# Altium integrated library TI Amplifiers and Linear Operational Amplifier Precision Amplifier Part Two.IntLib: 2300 symbols (part 4 of 81)
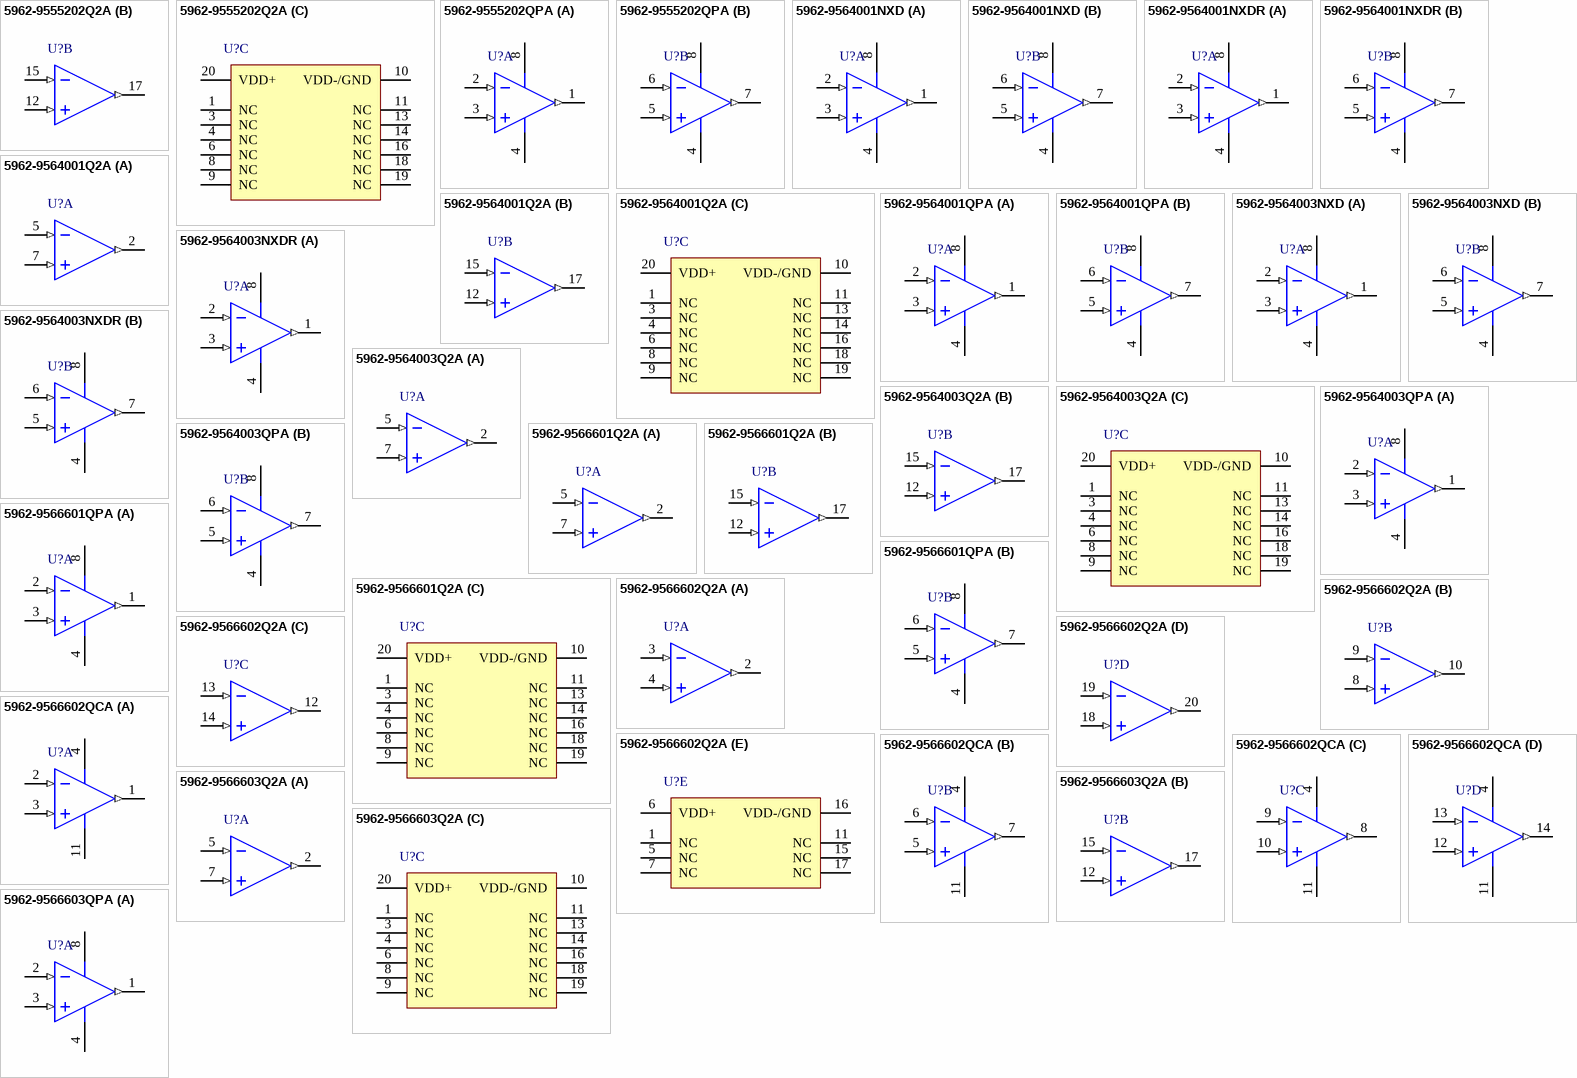
[diagram p139: symbols 5962-9555202Q2A to 5962-9566603QPA]

## 5962-9564003NXDR
designator U?
Rail-to-Rail uPower Precision Advanced LinCMOS(TM) Dual Operational Amplifier, 4.4 to 16 V, -55 to 125 degC, 8-pin SOIC (D8), Green (RoHS & no Sb/Br); Manufacturer: Texas Instruments; PartNumber: 5962-9564003NXDR; CMRR(Min)(dB): 70; GBW(Typ)(MHz): 0.2; IIB(Max)(pA): 60; Iq per channel(Max)(mA): 0.0625; Number of Channels: 2; Offset Drift(Typ)(uV/C): 0.5; Packing: LARGE T&R; Rating: Military; Slew Rate(Typ)(V/us): 0.12; Sub Family: Low Power Amp (<=500uA), Precision Amplifier; Total Supply Voltage(Max)(+5V is 5, +/-5V is 10): 16; Total Supply Voltage(Min)(+5V is 5, +/-5V is 10): 4.4; Vio (25C)(Max)(mV): 0.85; DatasheetVersion: SLOS176D; PackageVersion: 4040047-3/M, 06/2011; PackageReference: D8; PackageDescription: 8-Pin Plastic Small Outline, Body 4.9 x 3.9 mm, Pitch 1.27 mm; Eco-Plan: Green (RoHS & no Sb/Br); Mounting Technology: Surface Mount; Code_JEDEC: MS-012; ComponentLink1Description: Manufacturer URL; ComponentLink1URL: http://www.ti.com/; ComponentLink2Description: Datasheet; ComponentLink2URL: http://www.ti.com/lit/ds/symlink/tlc2252am.pdf; ComponentLink3Description: Package Specification; ComponentLink3URL: http://www.ti.com/litv/pdf/msoi002j
footprint TI-D8_N (SOIC, 8-Leads, Body 4.9x3.9mm, Pitch 1.27mm, IPC Medium Density)
footprint TI-D8_L (SOIC, 8-Leads, Body 4.9x3.9mm, Pitch 1.27mm, IPC High Density)
footprint TI-D8_M (SOIC, 8-Leads, Body 4.9x3.9mm, Pitch 1.27mm, IPC Low Density)
pins on every part: 4 VDD-/GND (power), 8 VDD+ (power)
part A pins: 1 OUT1 (out), 2 IN1- (in), 3 IN1+ (in)
part B pins: 5 IN2+ (in), 6 IN2- (in), 7 OUT2 (out)

## 5962-9564003Q2A
designator U?
Rail-to-Rail uPower Precision Advanced LinCMOS(TM) Dual Operational Amplifier, 4.4 to 16 V, -55 to 125 degC, 20-pin LCC (FK20); Manufacturer: Texas Instruments; PartNumber: 5962-9564003Q2A; CMRR(Min)(dB): 70; GBW(Typ)(MHz): 0.2; IIB(Max)(pA): 60; Iq per channel(Max)(mA): 0.0625; Number of Channels: 2; Offset Drift(Typ)(uV/C): 0.5; Packing: TUBE; Rating: Military; Slew Rate(Typ)(V/us): 0.12; Sub Family: Low Power Amp (<=500uA), Precision Amplifier; Total Supply Voltage(Max)(+5V is 5, +/-5V is 10): 16; Total Supply Voltage(Min)(+5V is 5, +/-5V is 10): 4.4; Vio (25C)(Max)(mV): 0.85; DatasheetVersion: SLOS176D; PackageVersion: 4040140/D, 01/2011; PackageReference: FK20; PackageDescription: 20-Pin Ceramic, Metal Chip Carrier, Body 8.89 x 8.89 mm, Pitch 1.27 mm; Mounting Technology: Surface Mount; Code_JEDEC: MS-004; ComponentLink1Description: Manufacturer URL; ComponentLink1URL: http://www.ti.com/; ComponentLink2Description: Datasheet; ComponentLink2URL: http://www.ti.com/lit/ds/symlink/tlc2252am.pdf; ComponentLink3Description: Package Specification; ComponentLink3URL: http://www.ti.com/litv/pdf/mlcc006d
footprint TI-FK20_N (Leadless Chip Carrier, 20-Leads, Body 8.9x8.9mm, Pitch 1.27mm, IPC Medium Density)
footprint TI-FK20_L (Leadless Chip Carrier, 20-Leads, Body 8.9x8.9mm, Pitch 1.27mm, IPC High Density)
footprint TI-FK20_M (Leadless Chip Carrier, 20-Leads, Body 8.9x8.9mm, Pitch 1.27mm, IPC Low Density)
part A pins: 2 OUT1 (out), 5 IN1- (in), 7 IN1+ (in)
part B pins: 12 IN2+ (in), 15 IN2- (in), 17 OUT2 (out)
part C pins: 1 NC, 3 NC, 4 NC, 6 NC, 8 NC, 9 NC, 10 VDD-/GND (power), 11 NC, 13 NC, 14 NC, 16 NC, 18 NC, 19 NC, 20 VDD+ (power)

## 5962-9564003QPA
designator U?
Rail-to-Rail uPower Precision Advanced LinCMOS(TM) Dual Operational Amplifier, 4.4 to 16 V, -55 to 125 degC, 8-pin DIP (JG8); Manufacturer: Texas Instruments; PartNumber: 5962-9564003QPA; CMRR(Min)(dB): 70; GBW(Typ)(MHz): 0.2; IIB(Max)(pA): 60; Iq per channel(Max)(mA): 0.0625; Number of Channels: 2; Offset Drift(Typ)(uV/C): 0.5; Packing: TUBE; Rating: Military; Slew Rate(Typ)(V/us): 0.12; Sub Family: Low Power Amp (<=500uA), Precision Amplifier; Total Supply Voltage(Max)(+5V is 5, +/-5V is 10): 16; Total Supply Voltage(Min)(+5V is 5, +/-5V is 10): 4.4; Vio (25C)(Max)(mV): 0.85; DatasheetVersion: SLOS176D; PackageVersion: 4040107/C, 08/1996; PackageReference: JG8; PackageDescription: 8-Pin Ceramic, Glass In-Line, Body 9.58 x 6.665 mm, Pitch 2.54 mm; Mounting Technology: Through Hole; ComponentLink1Description: Manufacturer URL; ComponentLink1URL: http://www.ti.com/; ComponentLink2Description: Datasheet; ComponentLink2URL: http://www.ti.com/lit/ds/symlink/tlc2252am.pdf; ComponentLink3Description: Package Specification; ComponentLink3URL: http://www.ti.com/litv/pdf/mcer001a
footprint TI-JG8 (DIP, 8-Leads, Body 10.15x7.1mm, Pitch 2.54mm)
pins on every part: 4 VDD-/GND (power), 8 VDD+ (power)
part A pins: 1 OUT1 (out), 2 IN1- (in), 3 IN1+ (in)
part B pins: 5 IN2+ (in), 6 IN2- (in), 7 OUT2 (out)

## 5962-9566601Q2A
designator U?
Low Voltage Rail-to-Rail Micropower Advanced LinCMOS(TM) Dual Operational Amplifier, 2.7 to 8 V, -55 to 125 degC, 20-pin LCC (FK20); Manufacturer: Texas Instruments; PartNumber: 5962-9566601Q2A; CMRR(Min)(dB): 65; GBW(Typ)(MHz): 0.187; IIB(Max)(pA): 60; Iq per channel(Max)(mA): 0.125; Number of Channels: 2; Offset Drift(Typ)(uV/C): 0.5; Packing: TUBE; Rating: Military; Slew Rate(Typ)(V/us): 0.1; Sub Family: Low Power Amp (<=500uA), Low Supply Voltage Amplifier (<=2.7V), Precision Amplifier; Total Supply Voltage(Max)(+5V is 5, +/-5V is 10): 8; Total Supply Voltage(Min)(+5V is 5, +/-5V is 10): 2.7; Vio (25C)(Max)(mV): 1.5; DatasheetVersion: SLOS185D; PackageVersion: 4040140/D, 01/2011; PackageReference: FK20; PackageDescription: 20-Pin Ceramic, Metal Chip Carrier, Body 8.89 x 8.89 mm, Pitch 1.27 mm; Mounting Technology: Surface Mount; Code_JEDEC: MS-004; ComponentLink1Description: Manufacturer URL; ComponentLink1URL: http://www.ti.com/; ComponentLink2Description: Datasheet; ComponentLink2URL: http://www.ti.com/lit/ds/symlink/tlv2252m.pdf; ComponentLink3Description: Package Specification; ComponentLink3URL: http://www.ti.com/litv/pdf/mlcc006d
footprint TI-FK20_N (Leadless Chip Carrier, 20-Leads, Body 8.9x8.9mm, Pitch 1.27mm, IPC Medium Density)
footprint TI-FK20_L (Leadless Chip Carrier, 20-Leads, Body 8.9x8.9mm, Pitch 1.27mm, IPC High Density)
footprint TI-FK20_M (Leadless Chip Carrier, 20-Leads, Body 8.9x8.9mm, Pitch 1.27mm, IPC Low Density)
part A pins: 2 OUT1 (out), 5 IN1- (in), 7 IN1+ (in)
part B pins: 12 IN2+ (in), 15 IN2- (in), 17 OUT2 (out)
part C pins: 1 NC, 3 NC, 4 NC, 6 NC, 8 NC, 9 NC, 10 VDD-/GND (power), 11 NC, 13 NC, 14 NC, 16 NC, 18 NC, 19 NC, 20 VDD+ (power)

## 5962-9566601QPA
designator U?
Low Voltage Rail-to-Rail Micropower Advanced LinCMOS(TM) Dual Operational Amplifier, 2.7 to 8 V, -55 to 125 degC, 8-pin DIP (JG8); Manufacturer: Texas Instruments; PartNumber: 5962-9566601QPA; CMRR(Min)(dB): 65; GBW(Typ)(MHz): 0.187; IIB(Max)(pA): 60; Iq per channel(Max)(mA): 0.125; Number of Channels: 2; Offset Drift(Typ)(uV/C): 0.5; Packing: TUBE; Rating: Military; Slew Rate(Typ)(V/us): 0.1; Sub Family: Low Power Amp (<=500uA), Low Supply Voltage Amplifier (<=2.7V), Precision Amplifier; Total Supply Voltage(Max)(+5V is 5, +/-5V is 10): 8; Total Supply Voltage(Min)(+5V is 5, +/-5V is 10): 2.7; Vio (25C)(Max)(mV): 1.5; DatasheetVersion: SLOS185D; PackageVersion: 4040107/C, 08/1996; PackageReference: JG8; PackageDescription: 8-Pin Ceramic, Glass In-Line, Body 9.58 x 6.665 mm, Pitch 2.54 mm; Mounting Technology: Through Hole; ComponentLink1Description: Manufacturer URL; ComponentLink1URL: http://www.ti.com/; ComponentLink2Description: Datasheet; ComponentLink2URL: http://www.ti.com/lit/ds/symlink/tlv2252m.pdf; ComponentLink3Description: Package Specification; ComponentLink3URL: http://www.ti.com/litv/pdf/mcer001a
footprint TI-JG8 (DIP, 8-Leads, Body 10.15x7.1mm, Pitch 2.54mm)
pins on every part: 4 VDD-/GND (power), 8 VDD+ (power)
part A pins: 1 OUT1 (out), 2 IN1- (in), 3 IN1+ (in)
part B pins: 5 IN2+ (in), 6 IN2- (in), 7 OUT2 (out)

## 5962-9566602Q2A
designator U?
Low Voltage Rail-to-Rail uPower Advanced LinCMOS(TM) Quad Operational Amplifier, 2.7 to 8 V, -55 to 125 degC, 20-pin LCC (FK20); Manufacturer: Texas Instruments; PartNumber: 5962-9566602Q2A; CMRR(Min)(dB): 70; GBW(Typ)(MHz): 0.2; IIB(Max)(pA): 60; Iq per channel(Max)(mA): 0.0625; Number of Channels: 4; Offset Drift(Typ)(uV/C): 0.5; Packing: TUBE; Rating: Military; Slew Rate(Typ)(V/us): 0.12; Sub Family: Low Power Amp (<=500uA), Low Supply Voltage Amplifier (<=2.7V), Precision Amplifier; Total Supply Voltage(Max)(+5V is 5, +/-5V is 10): 8; Total Supply Voltage(Min)(+5V is 5, +/-5V is 10): 2.7; Vio (25C)(Max)(mV): 1.5; DatasheetVersion: SLOS185D; PackageVersion: 4040140/D, 01/2011; PackageReference: FK20; PackageDescription: 20-Pin Ceramic, Metal Chip Carrier, Body 8.89 x 8.89 mm, Pitch 1.27 mm; Mounting Technology: Surface Mount; Code_JEDEC: MS-004; ComponentLink1Description: Manufacturer URL; ComponentLink1URL: http://www.ti.com/; ComponentLink2Description: Datasheet; ComponentLink2URL: http://www.ti.com/lit/ds/symlink/tlv2254m.pdf; ComponentLink3Description: Package Specification; ComponentLink3URL: http://www.ti.com/litv/pdf/mlcc006d
footprint TI-FK20_N (Leadless Chip Carrier, 20-Leads, Body 8.9x8.9mm, Pitch 1.27mm, IPC Medium Density)
footprint TI-FK20_L (Leadless Chip Carrier, 20-Leads, Body 8.9x8.9mm, Pitch 1.27mm, IPC High Density)
footprint TI-FK20_M (Leadless Chip Carrier, 20-Leads, Body 8.9x8.9mm, Pitch 1.27mm, IPC Low Density)
part A pins: 2 OUT1 (out), 3 IN1- (in), 4 IN1+ (in)
part B pins: 8 IN2+ (in), 9 IN2- (in), 10 OUT2 (out)
part C pins: 12 OUT3 (out), 13 IN3- (in), 14 IN3+ (in)
part D pins: 18 IN4+ (in), 19 IN4- (in), 20 OUT4 (out)
part E pins: 1 NC, 5 NC, 6 VDD+ (power), 7 NC, 11 NC, 15 NC, 16 VDD-/GND (power), 17 NC

## 5962-9566602QCA
designator U?
Low Voltage Rail-to-Rail uPower Advanced LinCMOS(TM) Quad Operational Amplifier, 2.7 to 8 V, -55 to 125 degC, 14-pin DIP (J14); Manufacturer: Texas Instruments; PartNumber: 5962-9566602QCA; CMRR(Min)(dB): 70; GBW(Typ)(MHz): 0.2; IIB(Max)(pA): 60; Iq per channel(Max)(mA): 0.0625; Number of Channels: 4; Offset Drift(Typ)(uV/C): 0.5; Packing: TUBE; Rating: Military; Slew Rate(Typ)(V/us): 0.12; Sub Family: Low Power Amp (<=500uA), Low Supply Voltage Amplifier (<=2.7V), Precision Amplifier; Total Supply Voltage(Max)(+5V is 5, +/-5V is 10): 8; Total Supply Voltage(Min)(+5V is 5, +/-5V is 10): 2.7; Vio (25C)(Max)(mV): 1.5; DatasheetVersion: SLOS185D; PackageVersion: 4040083/F, 03/2003; PackageReference: J14; PackageDescription: 14-Pin Ceramic, Glass In-Line, Row Spacing 7.62 mm, Pitch 2.54 mm; Mounting Technology: Through Hole; ComponentLink1Description: Manufacturer URL; ComponentLink1URL: http://www.ti.com/; ComponentLink2Description: Datasheet; ComponentLink2URL: http://www.ti.com/lit/ds/symlink/tlv2254m.pdf; ComponentLink3Description: Package Specification; ComponentLink3URL: http://www.ti.com/litv/pdf/mcer002d
footprint TI-J14 (DIP, 14-Leads, Body 19.94x6.92mm, Row Spacing 7.62 mm, Pitch 2.54mm)
pins on every part: 4 VDD+ (power), 11 VDD-/GND (power)
part A pins: 1 OUT1 (out), 2 IN1- (in), 3 IN1+ (in)
part B pins: 5 IN2+ (in), 6 IN2- (in), 7 OUT2 (out)
part C pins: 8 OUT3 (out), 9 IN3- (in), 10 IN3+ (in)
part D pins: 12 IN4+ (in), 13 IN4- (in), 14 OUT4 (out)

## 5962-9566603Q2A
designator U?
Low Voltage Rail-to-Rail uPower Precision Advanced LinCMOS(TM) Dual Operational Amplifier, 2.7 to 8 V, -55 to 125 degC, 20-pin LCC (FK20); Manufacturer: Texas Instruments; PartNumber: 5962-9566603Q2A; CMRR(Min)(dB): 65; GBW(Typ)(MHz): 0.187; IIB(Max)(pA): 60; Iq per channel(Max)(mA): 0.125; Number of Channels: 2; Offset Drift(Typ)(uV/C): 0.5; Packing: TUBE; Rating: Military; Slew Rate(Typ)(V/us): 0.1; Sub Family: Low Power Amp (<=500uA), Low Supply Voltage Amplifier (<=2.7V), Precision Amplifier; Total Supply Voltage(Max)(+5V is 5, +/-5V is 10): 8; Total Supply Voltage(Min)(+5V is 5, +/-5V is 10): 2.7; Vio (25C)(Max)(mV): 0.85; DatasheetVersion: SLOS185D; PackageVersion: 4040140/D, 01/2011; PackageReference: FK20; PackageDescription: 20-Pin Ceramic, Metal Chip Carrier, Body 8.89 x 8.89 mm, Pitch 1.27 mm; Mounting Technology: Surface Mount; Code_JEDEC: MS-004; ComponentLink1Description: Manufacturer URL; ComponentLink1URL: http://www.ti.com/; ComponentLink2Description: Datasheet; ComponentLink2URL: http://www.ti.com/lit/ds/symlink/tlv2252am.pdf; ComponentLink3Description: Package Specification; ComponentLink3URL: http://www.ti.com/litv/pdf/mlcc006d
footprint TI-FK20_N (Leadless Chip Carrier, 20-Leads, Body 8.9x8.9mm, Pitch 1.27mm, IPC Medium Density)
footprint TI-FK20_L (Leadless Chip Carrier, 20-Leads, Body 8.9x8.9mm, Pitch 1.27mm, IPC High Density)
footprint TI-FK20_M (Leadless Chip Carrier, 20-Leads, Body 8.9x8.9mm, Pitch 1.27mm, IPC Low Density)
part A pins: 2 OUT1 (out), 5 IN1- (in), 7 IN1+ (in)
part B pins: 12 IN2+ (in), 15 IN2- (in), 17 OUT2 (out)
part C pins: 1 NC, 3 NC, 4 NC, 6 NC, 8 NC, 9 NC, 10 VDD-/GND (power), 11 NC, 13 NC, 14 NC, 16 NC, 18 NC, 19 NC, 20 VDD+ (power)

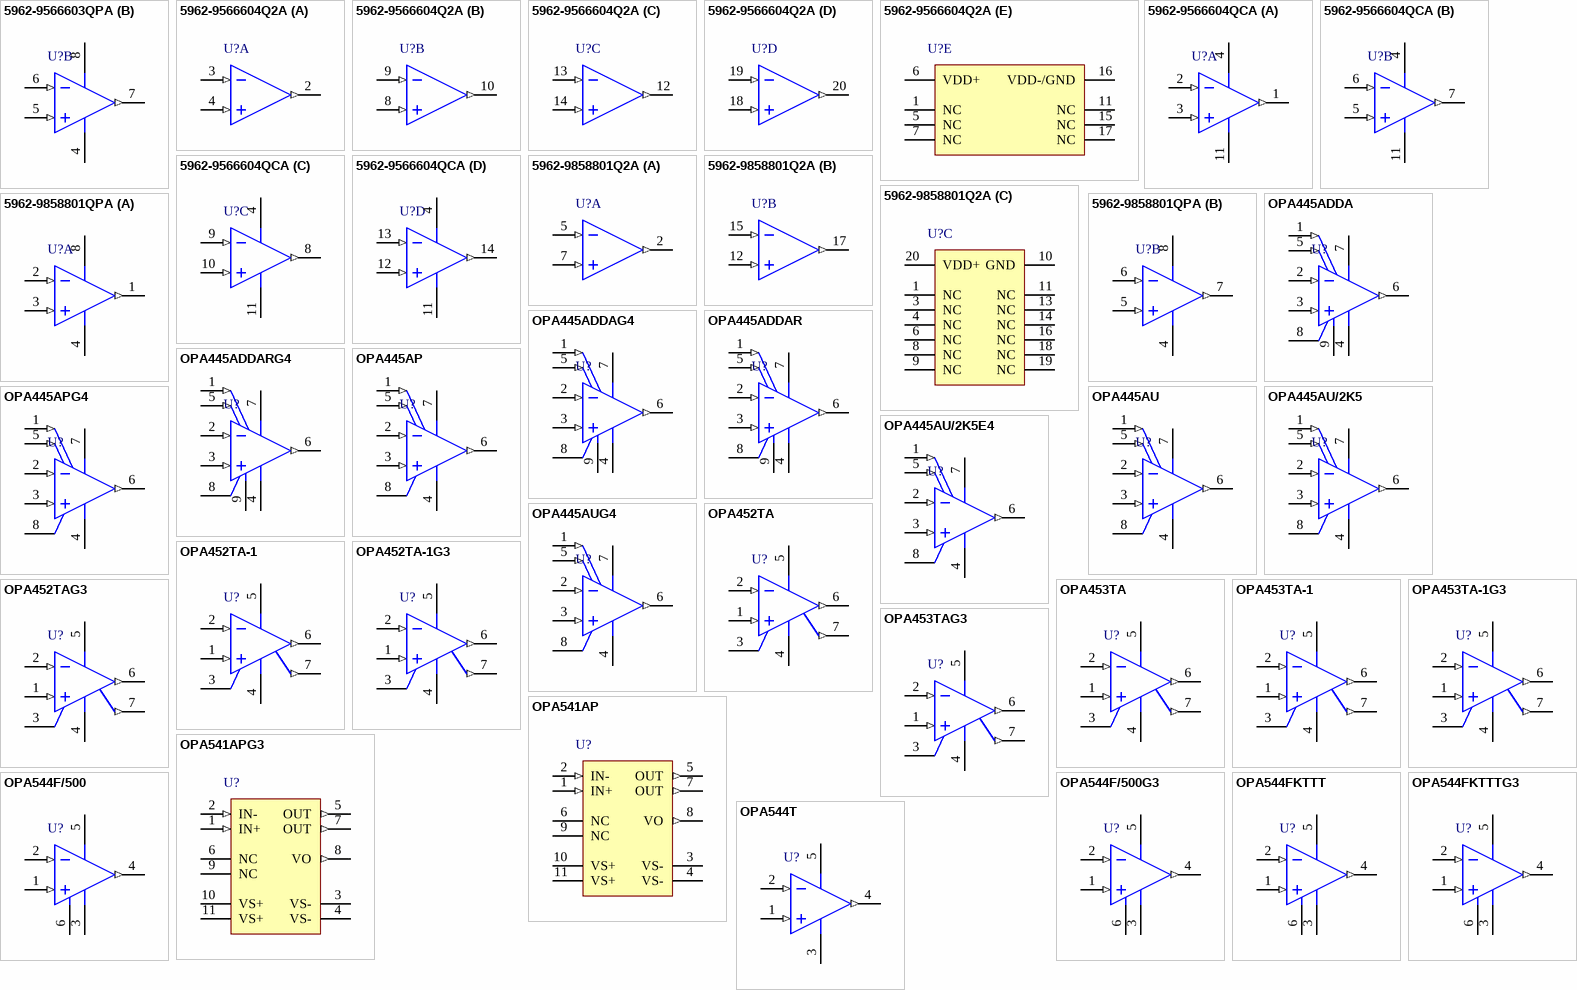
[diagram p7: symbols 5962-9566603QPA to OPA544T]

## 5962-9566603QPA
designator U?
Low Voltage Rail-to-Rail uPower Precision Advanced LinCMOS(TM) Dual Operational Amplifier, 2.7 to 8 V, -55 to 125 degC, 8-pin DIP (JG8); Manufacturer: Texas Instruments; PartNumber: 5962-9566603QPA; CMRR(Min)(dB): 65; GBW(Typ)(MHz): 0.187; IIB(Max)(pA): 60; Iq per channel(Max)(mA): 0.125; Number of Channels: 2; Offset Drift(Typ)(uV/C): 0.5; Packing: TUBE; Rating: Military; Slew Rate(Typ)(V/us): 0.1; Sub Family: Low Power Amp (<=500uA), Low Supply Voltage Amplifier (<=2.7V), Precision Amplifier; Total Supply Voltage(Max)(+5V is 5, +/-5V is 10): 8; Total Supply Voltage(Min)(+5V is 5, +/-5V is 10): 2.7; Vio (25C)(Max)(mV): 0.85; DatasheetVersion: SLOS185D; PackageVersion: 4040107/C, 08/1996; PackageReference: JG8; PackageDescription: 8-Pin Ceramic, Glass In-Line, Body 9.58 x 6.665 mm, Pitch 2.54 mm; Mounting Technology: Through Hole; ComponentLink1Description: Manufacturer URL; ComponentLink1URL: http://www.ti.com/; ComponentLink2Description: Datasheet; ComponentLink2URL: http://www.ti.com/lit/ds/symlink/tlv2252am.pdf; ComponentLink3Description: Package Specification; ComponentLink3URL: http://www.ti.com/litv/pdf/mcer001a
footprint TI-JG8 (DIP, 8-Leads, Body 10.15x7.1mm, Pitch 2.54mm)
pins on every part: 4 VDD-/GND (power), 8 VDD+ (power)
part A pins: 1 OUT1 (out), 2 IN1- (in), 3 IN1+ (in)
part B pins: 5 IN2+ (in), 6 IN2- (in), 7 OUT2 (out)

## 5962-9566604Q2A
designator U?
Low Voltage Rail-to-Rail uPower Precision Advanced LinCMOS(TM) Quad Operational Amplifier, 2.7 to 8 V, -55 to 125 degC, 20-pin LCC (FK20); Manufacturer: Texas Instruments; PartNumber: 5962-9566604Q2A; CMRR(Min)(dB): 70; GBW(Typ)(MHz): 0.2; IIB(Max)(pA): 60; Iq per channel(Max)(mA): 0.0625; Number of Channels: 4; Offset Drift(Typ)(uV/C): 0.5; Packing: TUBE; Rating: Military; Slew Rate(Typ)(V/us): 0.12; Sub Family: Low Power Amp (<=500uA), Low Supply Voltage Amplifier (<=2.7V), Precision Amplifier; Total Supply Voltage(Max)(+5V is 5, +/-5V is 10): 8; Total Supply Voltage(Min)(+5V is 5, +/-5V is 10): 2.7; Vio (25C)(Max)(mV): 0.85; DatasheetVersion: SLOS185D; PackageVersion: 4040140/D, 01/2011; PackageReference: FK20; PackageDescription: 20-Pin Ceramic, Metal Chip Carrier, Body 8.89 x 8.89 mm, Pitch 1.27 mm; Mounting Technology: Surface Mount; Code_JEDEC: MS-004; ComponentLink1Description: Manufacturer URL; ComponentLink1URL: http://www.ti.com/; ComponentLink2Description: Datasheet; ComponentLink2URL: http://www.ti.com/lit/ds/symlink/tlv2254am.pdf; ComponentLink3Description: Package Specification; ComponentLink3URL: http://www.ti.com/litv/pdf/mlcc006d
footprint TI-FK20_N (Leadless Chip Carrier, 20-Leads, Body 8.9x8.9mm, Pitch 1.27mm, IPC Medium Density)
footprint TI-FK20_L (Leadless Chip Carrier, 20-Leads, Body 8.9x8.9mm, Pitch 1.27mm, IPC High Density)
footprint TI-FK20_M (Leadless Chip Carrier, 20-Leads, Body 8.9x8.9mm, Pitch 1.27mm, IPC Low Density)
part A pins: 2 OUT1 (out), 3 IN1- (in), 4 IN1+ (in)
part B pins: 8 IN2+ (in), 9 IN2- (in), 10 OUT2 (out)
part C pins: 12 OUT3 (out), 13 IN3- (in), 14 IN3+ (in)
part D pins: 18 IN4+ (in), 19 IN4- (in), 20 OUT4 (out)
part E pins: 1 NC, 5 NC, 6 VDD+ (power), 7 NC, 11 NC, 15 NC, 16 VDD-/GND (power), 17 NC

## 5962-9566604QCA
designator U?
Low Voltage Rail-to-Rail uPower Precision Advanced LinCMOS(TM) Quad Operational Amplifier, 2.7 to 8 V, -55 to 125 degC, 14-pin DIP (J14); Manufacturer: Texas Instruments; PartNumber: 5962-9566604QCA; CMRR(Min)(dB): 70; GBW(Typ)(MHz): 0.2; IIB(Max)(pA): 60; Iq per channel(Max)(mA): 0.0625; Number of Channels: 4; Offset Drift(Typ)(uV/C): 0.5; Packing: TUBE; Rating: Military; Slew Rate(Typ)(V/us): 0.12; Sub Family: Low Power Amp (<=500uA), Low Supply Voltage Amplifier (<=2.7V), Precision Amplifier; Total Supply Voltage(Max)(+5V is 5, +/-5V is 10): 8; Total Supply Voltage(Min)(+5V is 5, +/-5V is 10): 2.7; Vio (25C)(Max)(mV): 0.85; DatasheetVersion: SLOS185D; PackageVersion: 4040083/F, 03/2003; PackageReference: J14; PackageDescription: 14-Pin Ceramic, Glass In-Line, Row Spacing 7.62 mm, Pitch 2.54 mm; Mounting Technology: Through Hole; ComponentLink1Description: Manufacturer URL; ComponentLink1URL: http://www.ti.com/; ComponentLink2Description: Datasheet; ComponentLink2URL: http://www.ti.com/lit/ds/symlink/tlv2254am.pdf; ComponentLink3Description: Package Specification; ComponentLink3URL: http://www.ti.com/litv/pdf/mcer002d
footprint TI-J14 (DIP, 14-Leads, Body 19.94x6.92mm, Row Spacing 7.62 mm, Pitch 2.54mm)
pins on every part: 4 VDD+ (power), 11 VDD-/GND (power)
part A pins: 1 OUT1 (out), 2 IN1- (in), 3 IN1+ (in)
part B pins: 5 IN2+ (in), 6 IN2- (in), 7 OUT2 (out)
part C pins: 8 OUT3 (out), 9 IN3- (in), 10 IN3+ (in)
part D pins: 12 IN4+ (in), 13 IN4- (in), 14 OUT4 (out)

## 5962-9858801Q2A
designator U?
Dual High-Slew-Rate Rail-to-Rai Output Operational Amplifier, 2.5 to 6 V, -55 to 125 degC, 20-pin LCC (FK20); Manufacturer: Texas Instruments; PartNumber: 5962-9858801Q2A; CMRR(Min)(dB): 60; GBW(Typ)(MHz): 5.1; Iq per channel(Max)(mA): 2; Packing: TUBE; Rating: Military; Slew Rate(Typ)(V/us): 9; Sub Family: Low Supply Voltage Amplifier (<=2.7V), Precision Amplifier; Total Supply Voltage(Max)(+5V is 5, +/-5V is 10): 6; Total Supply Voltage(Min)(+5V is 5, +/-5V is 10): 2.5; DatasheetVersion: SLOS209G; PackageVersion: 4040140/D, 01/2011; PackageReference: FK20; PackageDescription: 20-Pin Ceramic, Metal Chip Carrier, Body 8.89 x 8.89 mm, Pitch 1.27 mm; IIB(Max)(pA): 60; Number of Channels: 2; Offset Drift(Typ)(uV/C): 2; Vio (25C)(Max)(mV): 2.5; Mounting Technology: Surface Mount; Code_JEDEC: MS-004; ComponentLink1Description: Manufacturer URL; ComponentLink1URL: http://www.ti.com/; ComponentLink2Description: Datasheet; ComponentLink2URL: http://www.ti.com/lit/ds/symlink/tlv2772m.pdf; ComponentLink3Description: Package Specification; ComponentLink3URL: http://www.ti.com/litv/pdf/mlcc006d
footprint TI-FK20_N (Leadless Chip Carrier, 20-Leads, Body 8.9x8.9mm, Pitch 1.27mm, IPC Medium Density)
footprint TI-FK20_L (Leadless Chip Carrier, 20-Leads, Body 8.9x8.9mm, Pitch 1.27mm, IPC High Density)
footprint TI-FK20_M (Leadless Chip Carrier, 20-Leads, Body 8.9x8.9mm, Pitch 1.27mm, IPC Low Density)
part A pins: 2 OUT1 (out), 5 IN1- (in), 7 IN1+ (in)
part B pins: 12 IN2+ (in), 15 IN2- (in), 17 OUT2 (out)
part C pins: 1 NC, 3 NC, 4 NC, 6 NC, 8 NC, 9 NC, 10 GND (power), 11 NC, 13 NC, 14 NC, 16 NC, 18 NC, 19 NC, 20 VDD+ (power)

## 5962-9858801QPA
designator U?
Dual High-Slew-Rate Rail-to-Rai Output Operational Amplifier, 2.5 to 6 V, -55 to 125 degC, 8-pin DIP (JG8); Manufacturer: Texas Instruments; PartNumber: 5962-9858801QPA; CMRR(Min)(dB): 60; GBW(Typ)(MHz): 5.1; Iq per channel(Max)(mA): 2; Packing: TUBE; Rating: Military; Slew Rate(Typ)(V/us): 9; Sub Family: Low Supply Voltage Amplifier (<=2.7V), Precision Amplifier; Total Supply Voltage(Max)(+5V is 5, +/-5V is 10): 6; Total Supply Voltage(Min)(+5V is 5, +/-5V is 10): 2.5; DatasheetVersion: SLOS209G; PackageVersion: 4040107/C, 08/1996; PackageReference: JG8; PackageDescription: 8-Pin Ceramic, Glass In-Line, Body 9.58 x 6.665 mm, Pitch 2.54 mm; IIB(Max)(pA): 60; Number of Channels: 2; Offset Drift(Typ)(uV/C): 2; Vio (25C)(Max)(mV): 2.5; Mounting Technology: Through Hole; ComponentLink1Description: Manufacturer URL; ComponentLink1URL: http://www.ti.com/; ComponentLink2Description: Datasheet; ComponentLink2URL: http://www.ti.com/lit/ds/symlink/tlv2772m.pdf; ComponentLink3Description: Package Specification; ComponentLink3URL: http://www.ti.com/litv/pdf/mcer001a
footprint TI-JG8 (DIP, 8-Leads, Body 10.15x7.1mm, Pitch 2.54mm)
pins on every part: 4 GND (power), 8 VDD (power)
part A pins: 1 OUT1 (out), 2 IN1- (in), 3 IN1+ (in)
part B pins: 5 IN2+ (in), 6 IN2- (in), 7 OUT2 (out)

## OPA445ADDA
designator U?
High Voltage FET-Input Operational Amplifier, 20 to 90 V, -55 to 125 degC, 8-pin SOP (DDA8), Green (RoHS & no Sb/Br); Manufacturer: Texas Instruments; PartNumber: OPA445ADDA; CMRR(Min)(dB): 80; GBW(Typ)(MHz): 2; IIB(Max)(pA): 100; Iq per channel(Max)(mA): 4.7; Number of Channels: 1; Offset Drift(Typ)(uV/C): 10; Packing: TUBE; Rating: Catalog; Slew Rate(Typ)(V/us): 15; Sub Family: High Supply Voltage Amplifier (>=30V), Precision Amplifier; Total Supply Voltage(Max)(+5V is 5, +/-5V is 10): 90; Total Supply Voltage(Min)(+5V is 5, +/-5V is 10): 20; Vio (25C)(Max)(mV): 5; DatasheetVersion: SBOS156B; PackageVersion: 4202561/F, 12/2011; PackageReference: DDA8-2745X2245TP; PackageDescription: 8-Pin PowerPAD(TM) Plastic Small Outline, Body 3.9 x 4.9 mm, Pitch 1.27 mm; Supplier 1: Digi-Key; Supplier Part Number 1: 296-20722-5-ND; Supplier 2: Newark; Supplier Part Number 2: 18M7503; Supplier 3: Mouser; Supplier Part Number 3: 595-OPA445ADDA; Eco-Plan: Green (RoHS & no Sb/Br); Mounting Technology: Surface Mount; Code_JEDEC: MS-012; ComponentLink1Description: Manufacturer URL; ComponentLink1URL: http://www.ti.com/; ComponentLink2Description: Datasheet; ComponentLink2URL: http://www.ti.com/lit/ds/symlink/opa445.pdf; ComponentLink3Description: Package Specification; ComponentLink3URL: http://www.ti.com/litv/pdf/mpds092e
footprint TI-DDA8-2745X2245TP_N (SOP, 8-Leads, Body 4.9x3.9mm, Pitch 1.27mm, Thermal Pad 3x2.49mm, IPC Medium Density)
footprint TI-DDA8-2745X2245TP_L (SOP, 8-Leads, Body 4.9x3.9mm, Pitch 1.27mm, Thermal Pad 3x2.49mm, IPC High Density)
footprint TI-DDA8-2745X2245TP_M (SOP, 8-Leads, Body 4.9x3.9mm, Pitch 1.27mm, Thermal Pad 3x2.49mm, IPC Low Density)
pins: 1 OFFSET TRIM (in), 2 IN- (in), 3 IN+ (in), 4 V- (power), 5 OFFSET TRIM (in), 6 OUT (out), 7 V+ (power), 8 NC, 9 EP (power)

## OPA445ADDAG4
designator U?
High Voltage FET-Input Operational Amplifier, 20 to 90 V, -55 to 125 degC, 8-pin SOP (DDA8), Green (RoHS & no Sb/Br); Manufacturer: Texas Instruments; PartNumber: OPA445ADDAG4; CMRR(Min)(dB): 80; GBW(Typ)(MHz): 2; IIB(Max)(pA): 100; Iq per channel(Max)(mA): 4.7; Number of Channels: 1; Offset Drift(Typ)(uV/C): 10; Packing: TUBE; Rating: Catalog; Slew Rate(Typ)(V/us): 15; Sub Family: High Supply Voltage Amplifier (>=30V), Precision Amplifier; Total Supply Voltage(Max)(+5V is 5, +/-5V is 10): 90; Total Supply Voltage(Min)(+5V is 5, +/-5V is 10): 20; Vio (25C)(Max)(mV): 5; DatasheetVersion: SBOS156B; PackageVersion: 4202561/F, 12/2011; PackageReference: DDA8-2745X2245TP; PackageDescription: 8-Pin PowerPAD(TM) Plastic Small Outline, Body 3.9 x 4.9 mm, Pitch 1.27 mm; Supplier 1: Digi-Key; Supplier Part Number 1: OPA445ADDAG4-ND; Supplier 2: Newark; Supplier Part Number 2: 18M7504; Supplier 3: Mouser; Supplier Part Number 3: 595-OPA445ADDAG4; Eco-Plan: Green (RoHS & no Sb/Br); Mounting Technology: Surface Mount; Code_JEDEC: MS-012; ComponentLink1Description: Manufacturer URL; ComponentLink1URL: http://www.ti.com/; ComponentLink2Description: Datasheet; ComponentLink2URL: http://www.ti.com/lit/ds/symlink/opa445.pdf; ComponentLink3Description: Package Specification; ComponentLink3URL: http://www.ti.com/litv/pdf/mpds092e
footprint TI-DDA8-2745X2245TP_N (SOP, 8-Leads, Body 4.9x3.9mm, Pitch 1.27mm, Thermal Pad 3x2.49mm, IPC Medium Density)
footprint TI-DDA8-2745X2245TP_L (SOP, 8-Leads, Body 4.9x3.9mm, Pitch 1.27mm, Thermal Pad 3x2.49mm, IPC High Density)
footprint TI-DDA8-2745X2245TP_M (SOP, 8-Leads, Body 4.9x3.9mm, Pitch 1.27mm, Thermal Pad 3x2.49mm, IPC Low Density)
pins: 1 OFFSET TRIM (in), 2 IN- (in), 3 IN+ (in), 4 V- (power), 5 OFFSET TRIM (in), 6 OUT (out), 7 V+ (power), 8 NC, 9 EP (power)

## OPA445ADDAR
designator U?
High Voltage FET-Input Operational Amplifier, 20 to 90 V, -55 to 125 degC, 8-pin SOP (DDA8), Green (RoHS & no Sb/Br); Manufacturer: Texas Instruments; PartNumber: OPA445ADDAR; CMRR(Min)(dB): 80; GBW(Typ)(MHz): 2; IIB(Max)(pA): 100; Iq per channel(Max)(mA): 4.7; Number of Channels: 1; Offset Drift(Typ)(uV/C): 10; Packing: LARGE T&R; Rating: Catalog; Slew Rate(Typ)(V/us): 15; Sub Family: High Supply Voltage Amplifier (>=30V), Precision Amplifier; Total Supply Voltage(Max)(+5V is 5, +/-5V is 10): 90; Total Supply Voltage(Min)(+5V is 5, +/-5V is 10): 20; Vio (25C)(Max)(mV): 5; DatasheetVersion: SBOS156B; PackageVersion: 4202561/F, 12/2011; PackageReference: DDA8-2745X2245TP; PackageDescription: 8-Pin PowerPAD(TM) Plastic Small Outline, Body 3.9 x 4.9 mm, Pitch 1.27 mm; Supplier 1: Digi-Key; Supplier Part Number 1: OPA445ADDAR-ND; Supplier 2: Mouser; Supplier Part Number 2: 595-OPA445ADDAR; Eco-Plan: Green (RoHS & no Sb/Br); Mounting Technology: Surface Mount; Code_JEDEC: MS-012; ComponentLink1Description: Manufacturer URL; ComponentLink1URL: http://www.ti.com/; ComponentLink2Description: Datasheet; ComponentLink2URL: http://www.ti.com/lit/ds/symlink/opa445.pdf; ComponentLink3Description: Package Specification; ComponentLink3URL: http://www.ti.com/litv/pdf/mpds092e
footprint TI-DDA8-2745X2245TP_N (SOP, 8-Leads, Body 4.9x3.9mm, Pitch 1.27mm, Thermal Pad 3x2.49mm, IPC Medium Density)
footprint TI-DDA8-2745X2245TP_L (SOP, 8-Leads, Body 4.9x3.9mm, Pitch 1.27mm, Thermal Pad 3x2.49mm, IPC High Density)
footprint TI-DDA8-2745X2245TP_M (SOP, 8-Leads, Body 4.9x3.9mm, Pitch 1.27mm, Thermal Pad 3x2.49mm, IPC Low Density)
pins: 1 OFFSET TRIM (in), 2 IN- (in), 3 IN+ (in), 4 V- (power), 5 OFFSET TRIM (in), 6 OUT (out), 7 V+ (power), 8 NC, 9 EP (power)

## OPA445ADDARG4
designator U?
High Voltage FET-Input Operational Amplifier, 20 to 90 V, -55 to 125 degC, 8-pin SOP (DDA8), Green (RoHS & no Sb/Br); Manufacturer: Texas Instruments; PartNumber: OPA445ADDARG4; CMRR(Min)(dB): 80; GBW(Typ)(MHz): 2; IIB(Max)(pA): 100; Iq per channel(Max)(mA): 4.7; Number of Channels: 1; Offset Drift(Typ)(uV/C): 10; Packing: LARGE T&R; Rating: Catalog; Slew Rate(Typ)(V/us): 15; Sub Family: High Supply Voltage Amplifier (>=30V), Precision Amplifier; Total Supply Voltage(Max)(+5V is 5, +/-5V is 10): 90; Total Supply Voltage(Min)(+5V is 5, +/-5V is 10): 20; Vio (25C)(Max)(mV): 5; DatasheetVersion: SBOS156B; PackageVersion: 4202561/F, 12/2011; PackageReference: DDA8-2745X2245TP; PackageDescription: 8-Pin PowerPAD(TM) Plastic Small Outline, Body 3.9 x 4.9 mm, Pitch 1.27 mm; Supplier 1: Digi-Key; Supplier Part Number 1: OPA445ADDARG4-ND; Supplier 2: Mouser; Supplier Part Number 2: 595-OPA445ADDARG4; Eco-Plan: Green (RoHS & no Sb/Br); Mounting Technology: Surface Mount; Code_JEDEC: MS-012; ComponentLink1Description: Manufacturer URL; ComponentLink1URL: http://www.ti.com/; ComponentLink2Description: Datasheet; ComponentLink2URL: http://www.ti.com/lit/ds/symlink/opa445.pdf; ComponentLink3Description: Package Specification; ComponentLink3URL: http://www.ti.com/litv/pdf/mpds092e
footprint TI-DDA8-2745X2245TP_N (SOP, 8-Leads, Body 4.9x3.9mm, Pitch 1.27mm, Thermal Pad 3x2.49mm, IPC Medium Density)
footprint TI-DDA8-2745X2245TP_L (SOP, 8-Leads, Body 4.9x3.9mm, Pitch 1.27mm, Thermal Pad 3x2.49mm, IPC High Density)
footprint TI-DDA8-2745X2245TP_M (SOP, 8-Leads, Body 4.9x3.9mm, Pitch 1.27mm, Thermal Pad 3x2.49mm, IPC Low Density)
pins: 1 OFFSET TRIM (in), 2 IN- (in), 3 IN+ (in), 4 V- (power), 5 OFFSET TRIM (in), 6 OUT (out), 7 V+ (power), 8 NC, 9 EP (power)

## OPA445AP
designator U?
High Voltage FET-Input Operational Amplifier, 20 to 90 V, -55 to 125 degC, 8-pin DIP (P8), Green (RoHS & no Sb/Br); Manufacturer: Texas Instruments; PartNumber: OPA445AP; CMRR(Min)(dB): 80; GBW(Typ)(MHz): 2; IIB(Max)(pA): 100; Iq per channel(Max)(mA): 4.7; Number of Channels: 1; Offset Drift(Typ)(uV/C): 10; Packing: TUBE; Rating: Catalog; Slew Rate(Typ)(V/us): 15; Sub Family: High Supply Voltage Amplifier (>=30V), Precision Amplifier; Total Supply Voltage(Max)(+5V is 5, +/-5V is 10): 90; Total Supply Voltage(Min)(+5V is 5, +/-5V is 10): 20; Vio (25C)(Max)(mV): 5; DatasheetVersion: SBOS156B; PackageVersion: 4040082/E, 04/2010; PackageReference: P8; PackageDescription: 8-Pin Plastic In-Line, Body 9.59 x 6.35 mm, Pitch 2.54 mm; Supplier 1: Digi-Key; Supplier Part Number 1: OPA445AP-ND; Supplier 2: Newark; Supplier Part Number 2: 96K4527; Supplier 3: Mouser; Supplier Part Number 3: 595-OPA445AP; Eco-Plan: Green (RoHS & no Sb/Br); Mounting Technology: Through Hole; Code_JEDEC: MS-001; ComponentLink1Description: Manufacturer URL; ComponentLink1URL: http://www.ti.com/; ComponentLink2Description: Datasheet; ComponentLink2URL: http://www.ti.com/lit/ds/symlink/opa445.pdf; ComponentLink3Description: Package Specification; ComponentLink3URL: http://www.ti.com/litv/pdf/mpdi001b
footprint TI-P8 (DIP, 8-Leads, Body 9.59x6.35mm, Pitch 2.54mm)
pins: 1 OFFSET TRIM (in), 2 IN- (in), 3 IN+ (in), 4 V- (power), 5 OFFSET TRIM (in), 6 OUT (out), 7 V+ (power), 8 NC

## OPA445APG4
designator U?
High Voltage FET-Input Operational Amplifier, 20 to 90 V, -55 to 125 degC, 8-pin DIP (P8), Green (RoHS & no Sb/Br); Manufacturer: Texas Instruments; PartNumber: OPA445APG4; CMRR(Min)(dB): 80; GBW(Typ)(MHz): 2; IIB(Max)(pA): 100; Iq per channel(Max)(mA): 4.7; Number of Channels: 1; Offset Drift(Typ)(uV/C): 10; Packing: TUBE; Rating: Catalog; Slew Rate(Typ)(V/us): 15; Sub Family: High Supply Voltage Amplifier (>=30V), Precision Amplifier; Total Supply Voltage(Max)(+5V is 5, +/-5V is 10): 90; Total Supply Voltage(Min)(+5V is 5, +/-5V is 10): 20; Vio (25C)(Max)(mV): 5; DatasheetVersion: SBOS156B; PackageVersion: 4040082/E, 04/2010; PackageReference: P8; PackageDescription: 8-Pin Plastic In-Line, Body 9.59 x 6.35 mm, Pitch 2.54 mm; Supplier 1: Digi-Key; Supplier Part Number 1: OPA445APG4-ND; Supplier 2: Newark; Supplier Part Number 2: 06M7544; Supplier 3: Mouser; Supplier Part Number 3: 595-OPA445APG4; Eco-Plan: Green (RoHS & no Sb/Br); Mounting Technology: Through Hole; Code_JEDEC: MS-001; ComponentLink1Description: Manufacturer URL; ComponentLink1URL: http://www.ti.com/; ComponentLink2Description: Datasheet; ComponentLink2URL: http://www.ti.com/lit/ds/symlink/opa445.pdf; ComponentLink3Description: Package Specification; ComponentLink3URL: http://www.ti.com/litv/pdf/mpdi001b
footprint TI-P8 (DIP, 8-Leads, Body 9.59x6.35mm, Pitch 2.54mm)
pins: 1 OFFSET TRIM (in), 2 IN- (in), 3 IN+ (in), 4 V- (power), 5 OFFSET TRIM (in), 6 OUT (out), 7 V+ (power), 8 NC

## OPA445AU
designator U?
High Voltage FET-Input Operational Amplifier, 20 to 90 V, -55 to 125 degC, 8-pin SOIC (D8), Green (RoHS & no Sb/Br); Manufacturer: Texas Instruments; PartNumber: OPA445AU; CMRR(Min)(dB): 80; GBW(Typ)(MHz): 2; IIB(Max)(pA): 100; Iq per channel(Max)(mA): 4.7; Number of Channels: 1; Offset Drift(Typ)(uV/C): 10; Packing: TUBE; Rating: Catalog; Slew Rate(Typ)(V/us): 15; Sub Family: High Supply Voltage Amplifier (>=30V), Precision Amplifier; Total Supply Voltage(Max)(+5V is 5, +/-5V is 10): 90; Total Supply Voltage(Min)(+5V is 5, +/-5V is 10): 20; Vio (25C)(Max)(mV): 5; DatasheetVersion: SBOS156B; PackageVersion: 4040047-3/M, 06/2011; PackageReference: D8; PackageDescription: 8-Pin Plastic Small Outline, Body 4.9 x 3.9 mm, Pitch 1.27 mm; Supplier 1: Digi-Key; Supplier Part Number 1: OPA445AU-ND; Supplier 2: Farnell; Supplier Part Number 2: 1097483; Supplier 3: Mouser; Supplier Part Number 3: 595-OPA445AU; Eco-Plan: Green (RoHS & no Sb/Br); Mounting Technology: Surface Mount; Code_JEDEC: MS-012; ComponentLink1Description: Manufacturer URL; ComponentLink1URL: http://www.ti.com/; ComponentLink2Description: Datasheet; ComponentLink2URL: http://www.ti.com/lit/ds/symlink/opa445.pdf; ComponentLink3Description: Package Specification; ComponentLink3URL: http://www.ti.com/litv/pdf/msoi002j
footprint TI-D8_N (SOIC, 8-Leads, Body 4.9x3.9mm, Pitch 1.27mm, IPC Medium Density)
footprint TI-D8_L (SOIC, 8-Leads, Body 4.9x3.9mm, Pitch 1.27mm, IPC High Density)
footprint TI-D8_M (SOIC, 8-Leads, Body 4.9x3.9mm, Pitch 1.27mm, IPC Low Density)
pins: 1 OFFSET TRIM (in), 2 IN- (in), 3 IN+ (in), 4 V- (power), 5 OFFSET TRIM (in), 6 OUT (out), 7 V+ (power), 8 NC

## OPA445AU/2K5
designator U?
High Voltage FET-Input Operational Amplifier, 20 to 90 V, -55 to 125 degC, 8-pin SOIC (D8), Green (RoHS & no Sb/Br); Manufacturer: Texas Instruments; PartNumber: OPA445AU/2K5; CMRR(Min)(dB): 80; GBW(Typ)(MHz): 2; IIB(Max)(pA): 100; Iq per channel(Max)(mA): 4.7; Number of Channels: 1; Offset Drift(Typ)(uV/C): 10; Packing: LARGE T&R; Rating: Catalog; Slew Rate(Typ)(V/us): 15; Sub Family: High Supply Voltage Amplifier (>=30V), Precision Amplifier; Total Supply Voltage(Max)(+5V is 5, +/-5V is 10): 90; Total Supply Voltage(Min)(+5V is 5, +/-5V is 10): 20; Vio (25C)(Max)(mV): 5; DatasheetVersion: SBOS156B; PackageVersion: 4040047-3/M, 06/2011; PackageReference: D8; PackageDescription: 8-Pin Plastic Small Outline, Body 4.9 x 3.9 mm, Pitch 1.27 mm; Supplier 1: Digi-Key; Supplier Part Number 1: OPA445AU/2K5-ND; Supplier 2: Newark; Supplier Part Number 2: 75C5023; Supplier 3: Mouser; Supplier Part Number 3: 595-OPA445AU/2K5; Eco-Plan: Green (RoHS & no Sb/Br); Mounting Technology: Surface Mount; Code_JEDEC: MS-012; ComponentLink1Description: Manufacturer URL; ComponentLink1URL: http://www.ti.com/; ComponentLink2Description: Datasheet; ComponentLink2URL: http://www.ti.com/lit/ds/symlink/opa445.pdf; ComponentLink3Description: Package Specification; ComponentLink3URL: http://www.ti.com/litv/pdf/msoi002j
footprint TI-D8_N (SOIC, 8-Leads, Body 4.9x3.9mm, Pitch 1.27mm, IPC Medium Density)
footprint TI-D8_L (SOIC, 8-Leads, Body 4.9x3.9mm, Pitch 1.27mm, IPC High Density)
footprint TI-D8_M (SOIC, 8-Leads, Body 4.9x3.9mm, Pitch 1.27mm, IPC Low Density)
pins: 1 OFFSET TRIM (in), 2 IN- (in), 3 IN+ (in), 4 V- (power), 5 OFFSET TRIM (in), 6 OUT (out), 7 V+ (power), 8 NC

## OPA445AU/2K5E4
designator U?
High Voltage FET-Input Operational Amplifier, 20 to 90 V, -55 to 125 degC, 8-pin SOIC (D8), Green (RoHS & no Sb/Br); Manufacturer: Texas Instruments; PartNumber: OPA445AU/2K5E4; CMRR(Min)(dB): 80; GBW(Typ)(MHz): 2; IIB(Max)(pA): 100; Iq per channel(Max)(mA): 4.7; Number of Channels: 1; Offset Drift(Typ)(uV/C): 10; Packing: LARGE T&R; Rating: Catalog; Slew Rate(Typ)(V/us): 15; Sub Family: High Supply Voltage Amplifier (>=30V), Precision Amplifier; Total Supply Voltage(Max)(+5V is 5, +/-5V is 10): 90; Total Supply Voltage(Min)(+5V is 5, +/-5V is 10): 20; Vio (25C)(Max)(mV): 5; DatasheetVersion: SBOS156B; PackageVersion: 4040047-3/M, 06/2011; PackageReference: D8; PackageDescription: 8-Pin Plastic Small Outline, Body 4.9 x 3.9 mm, Pitch 1.27 mm; Supplier 1: Digi-Key; Supplier Part Number 1: OPA445AU/2K5E4-ND; Supplier 2: Mouser; Supplier Part Number 2: 595-OPA445AU/2K5E4; Eco-Plan: Green (RoHS & no Sb/Br); Mounting Technology: Surface Mount; Code_JEDEC: MS-012; ComponentLink1Description: Manufacturer URL; ComponentLink1URL: http://www.ti.com/; ComponentLink2Description: Datasheet; ComponentLink2URL: http://www.ti.com/lit/ds/symlink/opa445.pdf; ComponentLink3Description: Package Specification; ComponentLink3URL: http://www.ti.com/litv/pdf/msoi002j
footprint TI-D8_N (SOIC, 8-Leads, Body 4.9x3.9mm, Pitch 1.27mm, IPC Medium Density)
footprint TI-D8_L (SOIC, 8-Leads, Body 4.9x3.9mm, Pitch 1.27mm, IPC High Density)
footprint TI-D8_M (SOIC, 8-Leads, Body 4.9x3.9mm, Pitch 1.27mm, IPC Low Density)
pins: 1 OFFSET TRIM (in), 2 IN- (in), 3 IN+ (in), 4 V- (power), 5 OFFSET TRIM (in), 6 OUT (out), 7 V+ (power), 8 NC

## OPA445AUG4
designator U?
High Voltage FET-Input Operational Amplifier, 20 to 90 V, -55 to 125 degC, 8-pin SOIC (D8), Green (RoHS & no Sb/Br); Manufacturer: Texas Instruments; PartNumber: OPA445AUG4; CMRR(Min)(dB): 80; GBW(Typ)(MHz): 2; IIB(Max)(pA): 100; Iq per channel(Max)(mA): 4.7; Number of Channels: 1; Offset Drift(Typ)(uV/C): 10; Packing: TUBE; Rating: Catalog; Slew Rate(Typ)(V/us): 15; Sub Family: High Supply Voltage Amplifier (>=30V), Precision Amplifier; Total Supply Voltage(Max)(+5V is 5, +/-5V is 10): 90; Total Supply Voltage(Min)(+5V is 5, +/-5V is 10): 20; Vio (25C)(Max)(mV): 5; DatasheetVersion: SBOS156B; PackageVersion: 4040047-3/M, 06/2011; PackageReference: D8; PackageDescription: 8-Pin Plastic Small Outline, Body 4.9 x 3.9 mm, Pitch 1.27 mm; Supplier 1: Digi-Key; Supplier Part Number 1: 296-36127-5-ND; Supplier 2: Farnell; Supplier Part Number 2: 1329590; Supplier 3: Newark; Supplier Part Number 3: 61M8059; Supplier 4: Mouser; Supplier Part Number 4: 595-OPA445AUG4; Eco-Plan: Green (RoHS & no Sb/Br); Mounting Technology: Surface Mount; Code_JEDEC: MS-012; ComponentLink1Description: Manufacturer URL; ComponentLink1URL: http://www.ti.com/; ComponentLink2Description: Datasheet; ComponentLink2URL: http://www.ti.com/lit/ds/symlink/opa445.pdf; ComponentLink3Description: Package Specification; ComponentLink3URL: http://www.ti.com/litv/pdf/msoi002j
footprint TI-D8_N (SOIC, 8-Leads, Body 4.9x3.9mm, Pitch 1.27mm, IPC Medium Density)
footprint TI-D8_L (SOIC, 8-Leads, Body 4.9x3.9mm, Pitch 1.27mm, IPC High Density)
footprint TI-D8_M (SOIC, 8-Leads, Body 4.9x3.9mm, Pitch 1.27mm, IPC Low Density)
pins: 1 OFFSET TRIM (in), 2 IN- (in), 3 IN+ (in), 4 V- (power), 5 OFFSET TRIM (in), 6 OUT (out), 7 V+ (power), 8 NC

## OPA452TA
designator U?
Operational Amplifier, 20 to 80 V, -40 to 125 degC, 7-pin FM (KC7), Green (RoHS & no Sb/Br); Manufacturer: Texas Instruments; PartNumber: OPA452TA; CMRR(Min)(dB): 86; GBW(Typ)(MHz): 1.8; IIB(Max)(pA): 100; Iq per channel(Max)(mA): 6.5; Number of Channels: 1; Offset Drift(Typ)(uV/C): 5; Packing: TUBE; Rating: Catalog; Slew Rate(Typ)(V/us): 10; Sub Family: High Output Current Amplifier (>=50mA), High Supply Voltage Amplifier (>=30V), Precision Amplifier; Total Supply Voltage(Max)(+5V is 5, +/-5V is 10): 80; Total Supply Voltage(Min)(+5V is 5, +/-5V is 10): 20; Vio (25C)(Max)(mV): 3; DatasheetVersion: SBOS127C; PackageVersion: 4040251/B, 01/1995; PackageReference: KC7; PackageDescription: 7-Pin Plastic Flange Mount, Body 10.16 x 14.55 mm, Pitch 1.27 mm; Supplier 1: Digi-Key; Supplier Part Number 1: OPA452TA-ND; Supplier 2: Farnell; Supplier Part Number 2: 1097497; Supplier 3: Newark; Supplier Part Number 3: 75C5026; Supplier 4: Mouser; Supplier Part Number 4: 595-OPA452TA; Eco-Plan: Green (RoHS & no Sb/Br); Mounting Technology: Through Hole; ComponentLink1Description: Manufacturer URL; ComponentLink1URL: http://www.ti.com/; ComponentLink2Description: Datasheet; ComponentLink2URL: http://www.ti.com/lit/ds/symlink/opa452.pdf; ComponentLink3Description: Package Specification; ComponentLink3URL: http://www.ti.com/litv/pdf/msot010
footprint TI-KC7 (Flange Mount, 7-Leads, Body 14.55x10.16mm, Pitch 1.27mm)
pins: 1 VIN+ (in), 2 VIN- (in), 3 NC, 4 V- (power), 5 V+ (power), 6 VO (out), 7 FLAG (out)

## OPA452TA-1
designator U?
Operational Amplifier, 20 to 80 V, -40 to 125 degC, 7-pin FM (KVT7), Green (RoHS & no Sb/Br); Manufacturer: Texas Instruments; PartNumber: OPA452TA-1; CMRR(Min)(dB): 86; GBW(Typ)(MHz): 1.8; IIB(Max)(pA): 100; Iq per channel(Max)(mA): 6.5; Number of Channels: 1; Offset Drift(Typ)(uV/C): 5; Packing: TUBE; Rating: Catalog; Slew Rate(Typ)(V/us): 10; Sub Family: High Output Current Amplifier (>=50mA), High Supply Voltage Amplifier (>=30V), Precision Amplifier; Total Supply Voltage(Max)(+5V is 5, +/-5V is 10): 80; Total Supply Voltage(Min)(+5V is 5, +/-5V is 10): 20; Vio (25C)(Max)(mV): 3; DatasheetVersion: SBOS127C; PackageVersion: 4204912/A, 01/2003; PackageReference: KVT7; PackageDescription: 7-Pin Plastic Flange Mount, Body 10.16 x 4.495 mm, Pitch 1.27 mm; Supplier 1: Digi-Key; Supplier Part Number 1: OPA452TA-1-ND; Supplier 2: Farnell; Supplier Part Number 2: 1212313; Supplier 3: Newark; Supplier Part Number 3: 01M8421; Supplier 4: Mouser; Supplier Part Number 4: 595-OPA452TA-1; Eco-Plan: Green (RoHS & no Sb/Br); Mounting Technology: Through Hole; ComponentLink1Description: Manufacturer URL; ComponentLink1URL: http://www.ti.com/; ComponentLink2Description: Datasheet; ComponentLink2URL: http://www.ti.com/lit/ds/symlink/opa452.pdf; ComponentLink3Description: Package Specification; ComponentLink3URL: http://www.ti.com/litv/pdf/mpzf004
footprint TI-KVT7 (FM, 7-Leads, Body 10.16x4.495mm, Pitch 1.27mm)
pins: 1 VIN+ (in), 2 VIN- (in), 3 NC, 4 V- (power), 5 V+ (power), 6 VO (out), 7 FLAG (out)

## OPA452TA-1G3
designator U?
Operational Amplifier, 20 to 80 V, -40 to 125 degC, 7-pin FM (KVT7), Green (RoHS & no Sb/Br); Manufacturer: Texas Instruments; PartNumber: OPA452TA-1G3; CMRR(Min)(dB): 86; GBW(Typ)(MHz): 1.8; IIB(Max)(pA): 100; Iq per channel(Max)(mA): 6.5; Number of Channels: 1; Offset Drift(Typ)(uV/C): 5; Packing: TUBE; Rating: Catalog; Slew Rate(Typ)(V/us): 10; Sub Family: High Output Current Amplifier (>=50mA), High Supply Voltage Amplifier (>=30V), Precision Amplifier; Total Supply Voltage(Max)(+5V is 5, +/-5V is 10): 80; Total Supply Voltage(Min)(+5V is 5, +/-5V is 10): 20; Vio (25C)(Max)(mV): 3; DatasheetVersion: SBOS127C; PackageVersion: 4204912/A, 01/2003; PackageReference: KVT7; PackageDescription: 7-Pin Plastic Flange Mount, Body 10.16 x 4.495 mm, Pitch 1.27 mm; Supplier 1: Digi-Key; Supplier Part Number 1: OPA452TA-1G3-ND; Supplier 2: Newark; Supplier Part Number 2: 33M9415; Supplier 3: Mouser; Supplier Part Number 3: 595-OPA452TA-1G3; Eco-Plan: Green (RoHS & no Sb/Br); Mounting Technology: Through Hole; ComponentLink1Description: Manufacturer URL; ComponentLink1URL: http://www.ti.com/; ComponentLink2Description: Datasheet; ComponentLink2URL: http://www.ti.com/lit/ds/symlink/opa452.pdf; ComponentLink3Description: Package Specification; ComponentLink3URL: http://www.ti.com/litv/pdf/mpzf004
footprint TI-KVT7 (FM, 7-Leads, Body 10.16x4.495mm, Pitch 1.27mm)
pins: 1 VIN+ (in), 2 VIN- (in), 3 NC, 4 V- (power), 5 V+ (power), 6 VO (out), 7 FLAG (out)

## OPA452TAG3
designator U?
Operational Amplifier, 20 to 80 V, -40 to 125 degC, 7-pin FM (KC7), Green (RoHS & no Sb/Br); Manufacturer: Texas Instruments; PartNumber: OPA452TAG3; CMRR(Min)(dB): 86; GBW(Typ)(MHz): 1.8; IIB(Max)(pA): 100; Iq per channel(Max)(mA): 6.5; Number of Channels: 1; Offset Drift(Typ)(uV/C): 5; Packing: TUBE; Rating: Catalog; Slew Rate(Typ)(V/us): 10; Sub Family: High Output Current Amplifier (>=50mA), High Supply Voltage Amplifier (>=30V), Precision Amplifier; Total Supply Voltage(Max)(+5V is 5, +/-5V is 10): 80; Total Supply Voltage(Min)(+5V is 5, +/-5V is 10): 20; Vio (25C)(Max)(mV): 3; DatasheetVersion: SBOS127C; PackageVersion: 4040251/B, 01/1995; PackageReference: KC7; PackageDescription: 7-Pin Plastic Flange Mount, Body 10.16 x 14.55 mm, Pitch 1.27 mm; Supplier 1: Digi-Key; Supplier Part Number 1: OPA452TAG3-ND; Supplier 2: Newark; Supplier Part Number 2: 33M9416; Supplier 3: Mouser; Supplier Part Number 3: 595-OPA452TAG3; Eco-Plan: Green (RoHS & no Sb/Br); Mounting Technology: Through Hole; ComponentLink1Description: Manufacturer URL; ComponentLink1URL: http://www.ti.com/; ComponentLink2Description: Datasheet; ComponentLink2URL: http://www.ti.com/lit/ds/symlink/opa452.pdf; ComponentLink3Description: Package Specification; ComponentLink3URL: http://www.ti.com/litv/pdf/msot010
footprint TI-KC7 (Flange Mount, 7-Leads, Body 14.55x10.16mm, Pitch 1.27mm)
pins: 1 VIN+ (in), 2 VIN- (in), 3 NC, 4 V- (power), 5 V+ (power), 6 VO (out), 7 FLAG (out)

## OPA453TA
designator U?
Operational Amplifier, 20 to 80 V, -40 to 125 degC, 7-pin FM (KC7), Green (RoHS & no Sb/Br); Manufacturer: Texas Instruments; PartNumber: OPA453TA; CMRR(Min)(dB): 86; GBW(Typ)(MHz): 7.5; IIB(Max)(pA): 100; Iq per channel(Max)(mA): 6.5; Number of Channels: 1; Offset Drift(Typ)(uV/C): 5; Packing: TUBE; Rating: Catalog; Slew Rate(Typ)(V/us): 23; Sub Family: High Output Current Amplifier (>=50mA), High Supply Voltage Amplifier (>=30V), Precision Amplifier; Total Supply Voltage(Max)(+5V is 5, +/-5V is 10): 80; Total Supply Voltage(Min)(+5V is 5, +/-5V is 10): 20; Vio (25C)(Max)(mV): 3; DatasheetVersion: SBOS127C; PackageVersion: 4040251/B, 01/1995; PackageReference: KC7; PackageDescription: 7-Pin Plastic Flange Mount, Body 10.16 x 14.55 mm, Pitch 1.27 mm; Supplier 1: Digi-Key; Supplier Part Number 1: OPA453TA-ND; Supplier 2: Farnell; Supplier Part Number 2: 1212314; Supplier 3: Newark; Supplier Part Number 3: 75C5030; Supplier 4: Mouser; Supplier Part Number 4: 595-OPA453TA; Eco-Plan: Green (RoHS & no Sb/Br); Mounting Technology: Through Hole; ComponentLink1Description: Manufacturer URL; ComponentLink1URL: http://www.ti.com/; ComponentLink2Description: Datasheet; ComponentLink2URL: http://www.ti.com/lit/ds/symlink/opa453.pdf; ComponentLink3Description: Package Specification; ComponentLink3URL: http://www.ti.com/litv/pdf/msot010
footprint TI-KC7 (Flange Mount, 7-Leads, Body 14.55x10.16mm, Pitch 1.27mm)
pins: 1 VIN+ (in), 2 VIN- (in), 3 NC, 4 V- (power), 5 V+ (power), 6 VO (out), 7 FLAG (out)

## OPA453TA-1
designator U?
Operational Amplifier, 20 to 80 V, -40 to 125 degC, 7-pin FM (KVT7), Green (RoHS & no Sb/Br); Manufacturer: Texas Instruments; PartNumber: OPA453TA-1; CMRR(Min)(dB): 86; GBW(Typ)(MHz): 7.5; IIB(Max)(pA): 100; Iq per channel(Max)(mA): 6.5; Number of Channels: 1; Offset Drift(Typ)(uV/C): 5; Packing: TUBE; Rating: Catalog; Slew Rate(Typ)(V/us): 23; Sub Family: High Output Current Amplifier (>=50mA), High Supply Voltage Amplifier (>=30V), Precision Amplifier; Total Supply Voltage(Max)(+5V is 5, +/-5V is 10): 80; Total Supply Voltage(Min)(+5V is 5, +/-5V is 10): 20; Vio (25C)(Max)(mV): 3; DatasheetVersion: SBOS127C; PackageVersion: 4204912/A, 01/2003; PackageReference: KVT7; PackageDescription: 7-Pin Plastic Flange Mount, Body 10.16 x 4.495 mm, Pitch 1.27 mm; Supplier 1: Digi-Key; Supplier Part Number 1: OPA453TA-1-ND; Supplier 2: Newark; Supplier Part Number 2: 75C5031; Supplier 3: Mouser; Supplier Part Number 3: 595-OPA453TA-1; Eco-Plan: Green (RoHS & no Sb/Br); Mounting Technology: Through Hole; ComponentLink1Description: Manufacturer URL; ComponentLink1URL: http://www.ti.com/; ComponentLink2Description: Datasheet; ComponentLink2URL: http://www.ti.com/lit/ds/symlink/opa453.pdf; ComponentLink3Description: Package Specification; ComponentLink3URL: http://www.ti.com/litv/pdf/mpzf004
footprint TI-KVT7 (FM, 7-Leads, Body 10.16x4.495mm, Pitch 1.27mm)
pins: 1 VIN+ (in), 2 VIN- (in), 3 NC, 4 V- (power), 5 V+ (power), 6 VO (out), 7 FLAG (out)

## OPA453TA-1G3
designator U?
Operational Amplifier, 20 to 80 V, -40 to 125 degC, 7-pin FM (KVT7), Green (RoHS & no Sb/Br); Manufacturer: Texas Instruments; PartNumber: OPA453TA-1G3; CMRR(Min)(dB): 86; GBW(Typ)(MHz): 7.5; IIB(Max)(pA): 100; Iq per channel(Max)(mA): 6.5; Number of Channels: 1; Offset Drift(Typ)(uV/C): 5; Packing: TUBE; Rating: Catalog; Slew Rate(Typ)(V/us): 23; Sub Family: High Output Current Amplifier (>=50mA), High Supply Voltage Amplifier (>=30V), Precision Amplifier; Total Supply Voltage(Max)(+5V is 5, +/-5V is 10): 80; Total Supply Voltage(Min)(+5V is 5, +/-5V is 10): 20; Vio (25C)(Max)(mV): 3; DatasheetVersion: SBOS127C; PackageVersion: 4204912/A, 01/2003; PackageReference: KVT7; PackageDescription: 7-Pin Plastic Flange Mount, Body 10.16 x 4.495 mm, Pitch 1.27 mm; Supplier 1: Digi-Key; Supplier Part Number 1: OPA453TA-1G3-ND; Supplier 2: Mouser; Supplier Part Number 2: 595-OPA453TA-1G3; Eco-Plan: Green (RoHS & no Sb/Br); Mounting Technology: Through Hole; ComponentLink1Description: Manufacturer URL; ComponentLink1URL: http://www.ti.com/; ComponentLink2Description: Datasheet; ComponentLink2URL: http://www.ti.com/lit/ds/symlink/opa453.pdf; ComponentLink3Description: Package Specification; ComponentLink3URL: http://www.ti.com/litv/pdf/mpzf004
footprint TI-KVT7 (FM, 7-Leads, Body 10.16x4.495mm, Pitch 1.27mm)
pins: 1 VIN+ (in), 2 VIN- (in), 3 NC, 4 V- (power), 5 V+ (power), 6 VO (out), 7 FLAG (out)

## OPA453TAG3
designator U?
Operational Amplifier, 20 to 80 V, -40 to 125 degC, 7-pin FM (KC7), Green (RoHS & no Sb/Br); Manufacturer: Texas Instruments; PartNumber: OPA453TAG3; CMRR(Min)(dB): 86; GBW(Typ)(MHz): 7.5; IIB(Max)(pA): 100; Iq per channel(Max)(mA): 6.5; Number of Channels: 1; Offset Drift(Typ)(uV/C): 5; Packing: TUBE; Rating: Catalog; Slew Rate(Typ)(V/us): 23; Sub Family: High Output Current Amplifier (>=50mA), High Supply Voltage Amplifier (>=30V), Precision Amplifier; Total Supply Voltage(Max)(+5V is 5, +/-5V is 10): 80; Total Supply Voltage(Min)(+5V is 5, +/-5V is 10): 20; Vio (25C)(Max)(mV): 3; DatasheetVersion: SBOS127C; PackageVersion: 4040251/B, 01/1995; PackageReference: KC7; PackageDescription: 7-Pin Plastic Flange Mount, Body 10.16 x 14.55 mm, Pitch 1.27 mm; Supplier 1: Digi-Key; Supplier Part Number 1: OPA453TAG3-ND; Supplier 2: Newark; Supplier Part Number 2: 33M9417; Supplier 3: Mouser; Supplier Part Number 3: 595-OPA453TAG3; Eco-Plan: Green (RoHS & no Sb/Br); Mounting Technology: Through Hole; ComponentLink1Description: Manufacturer URL; ComponentLink1URL: http://www.ti.com/; ComponentLink2Description: Datasheet; ComponentLink2URL: http://www.ti.com/lit/ds/symlink/opa453.pdf; ComponentLink3Description: Package Specification; ComponentLink3URL: http://www.ti.com/litv/pdf/msot010
footprint TI-KC7 (Flange Mount, 7-Leads, Body 14.55x10.16mm, Pitch 1.27mm)
pins: 1 VIN+ (in), 2 VIN- (in), 3 NC, 4 V- (power), 5 V+ (power), 6 VO (out), 7 FLAG (out)